# Altium footprint library USB_A_SMD.PcbLib: 1 footprints
Each footprint in its own frame and in the unit in brackets; x right, y up, seen from the top. Pads: shape width x height; smd on the part's side, far side on the other; paste and mask are expansions set on the pad; w line width, h text height; cw(c..) or ccw(c..) is an arc to the next point about the centre after c.
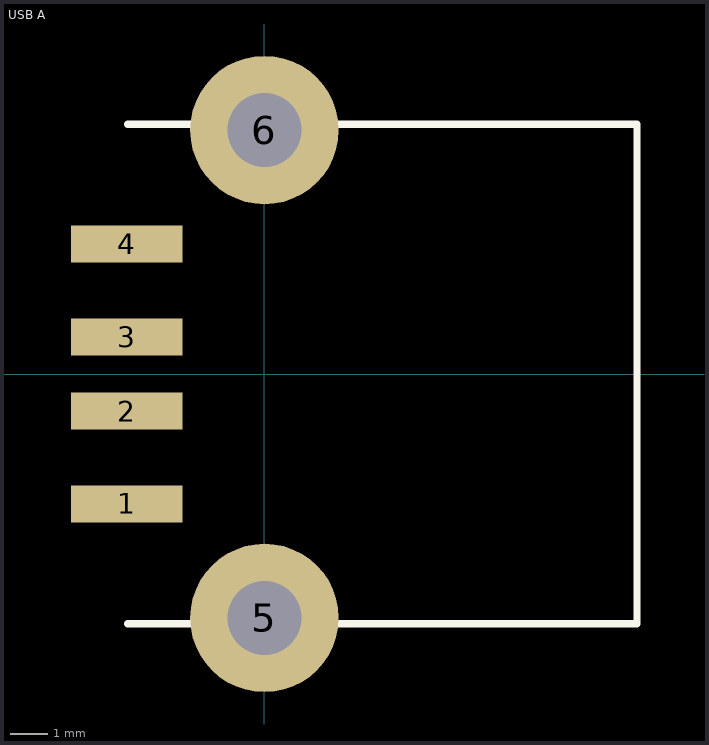
[diagram p0: the footprint, top view; thin cyan lines are the x and y axes]

## USB A [mm] "Right Angle"
height 4.5
pads (6):
  rect 3x1 smd: 1(-3.71,-3.5) 2(-3.71,-1) 3(-3.71,1) 4(-3.71,3.5)
  round 4 hole 2: 5(0,-6.57) 6(0,6.57)
Top Overlay:
  lines w0.2: -3.683,-6.731 10.033,-6.731 10.033,6.731 -3.683,6.731
3D body: height 7.5, standoff -3.81, extent -4.781,-7.747 10.369,7.953